# EAGLE library part GLOBALTOP_GMS- (library cTechnologies_gps)
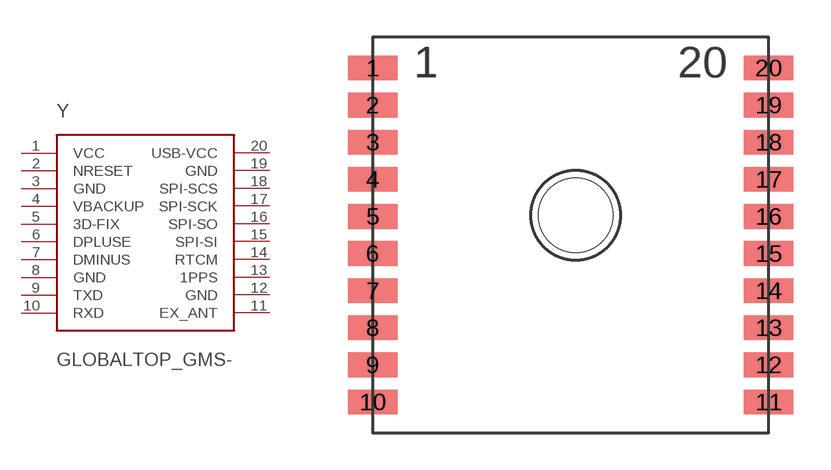
[diagram p0: symbol with the pads of GPS-GLOBALTOP-DEV; footprint GPS-GLOBALTOP-DEV]

Designator prefix Y

## GLOBALTOP_GMS-G6  [GPS-GLOBALTOP-DEV]
1  VCC
2  NRESET
3  GND
4  VBACKUP
5  3D-FIX
6  DPLUSE
7  DMINUS
8  GND
9  TXD
10  RXD
11  EX_ANT
12  GND
13  1PPS
14  RTCM
15  SPI-SI
16  SPI-SO
17  SPI-SCK
18  SPI-SCS
19  GND
20  USB-VCC

## Footprint GPS-GLOBALTOP-DEV (pad centres in mm)
smd 2 x 1: 1 -8,6.75; 2 -8,5.25; 3 -8,3.75; 4 -8,2.25; 5 -8,0.75; 6 -8,-0.75; 7 -8,-2.25; 8 -8,-3.75; 9 -8,-5.25; 10 -8,-6.75; 11 8,-6.75; 12 8,-5.25; 13 8,-3.75; 14 8,-2.25; 15 8,-0.75; 16 8,0.75; 17 8,2.25; 18 8,3.75; 19 8,5.25; 20 8,6.75
hole 3 at 0.2,0.8